# Altium footprint library Rn41footprint.PcbLib: 1 footprints
Each footprint in its own frame and in the unit in brackets; x right, y up, seen from the top. Pads: shape width x height; smd on the part's side, far side on the other; paste and mask are expansions set on the pad; w line width, h text height; cw(c..) or ccw(c..) is an arc to the next point about the centre after c.
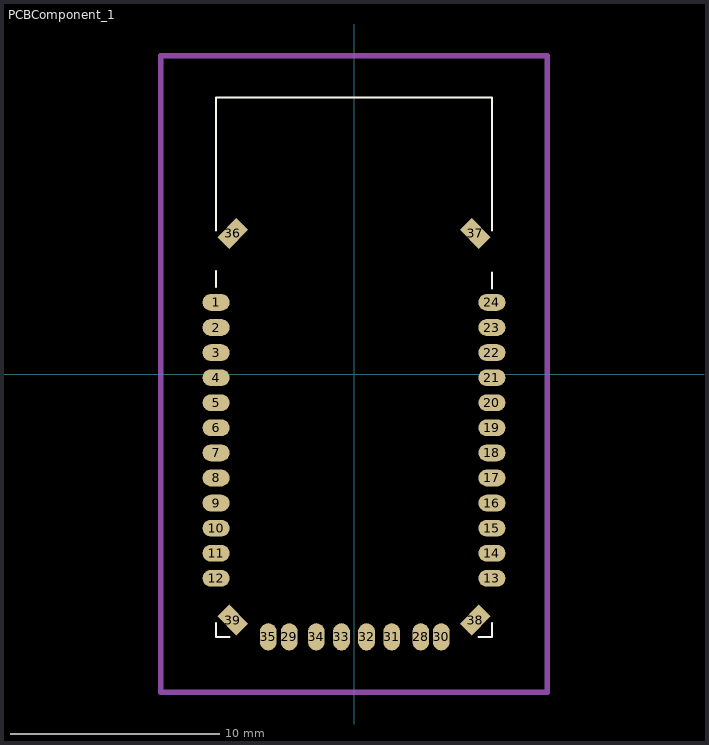
[diagram p0: the footprint, top view; thin cyan lines are the x and y axes]

## PCBComponent_1 [mm]
pads (36):
  oval 1.3x0.8 smd: 1(-6.6,3.425) 2(-6.6,2.225) 3(-6.6,1.025) 4(-6.6,-0.175) 5(-6.6,-1.375) 6(-6.6,-2.575) 7(-6.6,-3.775) 8(-6.6,-4.975) 9(-6.6,-6.175) 10(-6.6,-7.375) 11(-6.6,-8.575) 12(-6.6,-9.775) 13(6.6,-9.775) 14(6.6,-8.575) 15(6.6,-7.375) 16(6.6,-6.175) 17(6.6,-4.975) 18(6.6,-3.775) 19(6.6,-2.575) 20(6.6,-1.375) 21(6.6,-0.175) 22(6.6,1.025) 23(6.6,2.225) 24(6.6,3.425)
  oval 0.8x1.3 smd: 28(3.2,-12.575) 29(-3.1,-12.575) 30(4.175,-12.575) 31(1.8,-12.575) 32(0.6,-12.575) 33(-0.6,-12.575) 34(-1.8,-12.575) 35(-4.1,-12.575)
  rect 1.3x0.8 smd rot 45: 36(-5.8,6.725) 38(5.8,-11.775)
  rect 1.3x0.8 smd rot 135: 37(5.8,6.725) 39(-5.8,-11.775)
Top Overlay:
  lines w0.1: -6.6,-11.925 -6.6,-12.575 -5.95,-12.575 ; -6.6,4.175 -6.6,4.925 ; -6.6,6.875 -6.6,13.225 6.6,13.225 6.6,6.875 ; 5.95,-12.575 6.6,-12.575 6.6,-11.925 ; 6.6,4.1 6.6,4.85
Mechanical 15:
  lines w0.254: -9.25,-15.225 -9.25,15.225 9.25,15.225 9.25,-15.225 -9.25,-15.225
3D body: height 2.1, standoff 0.6, extent -6.55,-12.525 6.55,13.175